# EAGLE library part SN74LVC1G332 (library BrownSpaceEngineering)
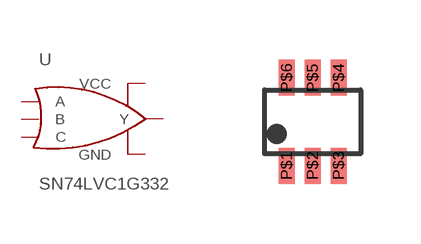
[diagram p13: symbol with the pads of DCK-6; footprint DCK-6]

Designator prefix U

## SN74LVC1G332  [DCK-6]
P$1  A  in
P$2  GND  pwr
P$3  B  in
P$4  Y  out
P$5  VCC  pwr
P$6  C  in

## Footprint DCK-6 (pad centres in mm)
smd 0.4 x 0.9: P$1 -0.65,-1.1; P$2 0,-1.1; P$3 0.65,-1.1; P$4 0.65,1.1; P$5 0,1.1; P$6 -0.65,1.1